# Altium footprint library PBD-4.PcbLib: 1 footprints
Each footprint in its own frame and in the unit in brackets; x right, y up, seen from the top. Pads: shape width x height; smd on the part's side, far side on the other; paste and mask are expansions set on the pad; w line width, h text height; cw(c..) or ccw(c..) is an arc to the next point about the centre after c.
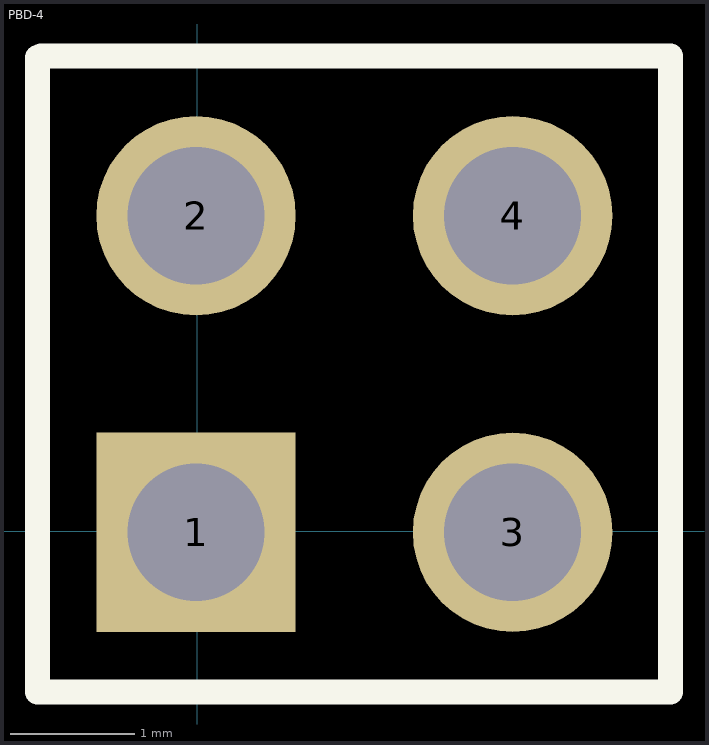
[diagram p0: the footprint, top view; thin cyan lines are the x and y axes]

## PBD-4 [mm]
pads (4):
  rect 1.6x1.6 hole 1.1: 1(-0.01,-0.009)
  round 1.6 hole 1.1: 2(-0.01,2.531) 3(2.53,-0.009) 4(2.53,2.531)
Top Overlay:
  lines w0.2: -1.28,3.801 -1.28,-1.292 3.795,-1.292 3.795,3.814 -1.255,3.814
3D body "PBD_2.54_4.SLDPRT": height 8.4, standoff -2.29, extent -1.245,-1.392 3.755,3.938